# EAGLE library part FCOUNTER_AMP2X4 (library CounterModule)
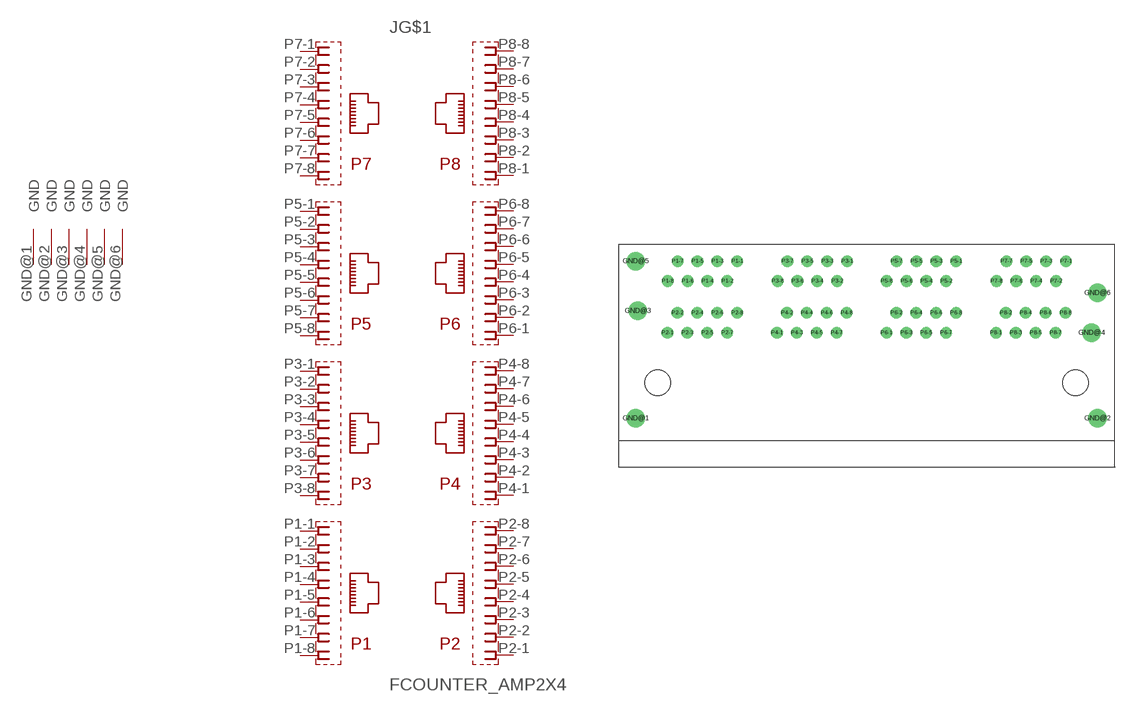
[diagram p8: symbol with the pads of FCOUNTER_AMP2X4; footprint FCOUNTER_AMP2X4]

Designator prefix J; gates G$1=FCOUNTER_AMP2X4 G$2=FCOUNTER_SCHIRM

## FCOUNTER_AMP2X4  [FCOUNTER_AMP2X4]
GND@1  G$2:GND  pwr
GND@2  G$2:GND  pwr
GND@3  G$2:GND  pwr
GND@4  G$2:GND  pwr
GND@5  G$2:GND  pwr
GND@6  G$2:GND  pwr
P1-1  G$1:P1-1  pas
P1-2  G$1:P1-2  pas
P1-3  G$1:P1-3  pas
P1-4  G$1:P1-4  pas
P1-5  G$1:P1-5  pas
P1-6  G$1:P1-6  pas
P1-7  G$1:P1-7  pas
P1-8  G$1:P1-8  pas
P2-1  G$1:P2-1  pas
P2-2  G$1:P2-2  pas
P2-3  G$1:P2-3  pas
P2-4  G$1:P2-4  pas
P2-5  G$1:P2-5  pas
P2-6  G$1:P2-6  pas
P2-7  G$1:P2-7  pas
P2-8  G$1:P2-8  pas
P3-1  G$1:P3-1  pas
P3-2  G$1:P3-2  pas
P3-3  G$1:P3-3  pas
P3-4  G$1:P3-4  pas
P3-5  G$1:P3-5  pas
P3-6  G$1:P3-6  pas
P3-7  G$1:P3-7  pas
P3-8  G$1:P3-8  pas
P4-1  G$1:P4-1  pas
P4-2  G$1:P4-2  pas
P4-3  G$1:P4-3  pas
P4-4  G$1:P4-4  pas
P4-5  G$1:P4-5  pas
P4-6  G$1:P4-6  pas
P4-7  G$1:P4-7  pas
P4-8  G$1:P4-8  pas
P5-1  G$1:P5-1  pas
P5-2  G$1:P5-2  pas
P5-3  G$1:P5-3  pas
P5-4  G$1:P5-4  pas
P5-5  G$1:P5-5  pas
P5-6  G$1:P5-6  pas
P5-7  G$1:P5-7  pas
P5-8  G$1:P5-8  pas
P6-1  G$1:P6-1  pas
P6-2  G$1:P6-2  pas
P6-3  G$1:P6-3  pas
P6-4  G$1:P6-4  pas
P6-5  G$1:P6-5  pas
P6-6  G$1:P6-6  pas
P6-7  G$1:P6-7  pas
P6-8  G$1:P6-8  pas
P7-1  G$1:P7-1  pas
P7-2  G$1:P7-2  pas
P7-3  G$1:P7-3  pas
P7-4  G$1:P7-4  pas
P7-5  G$1:P7-5  pas
P7-6  G$1:P7-6  pas
P7-7  G$1:P7-7  pas
P7-8  G$1:P7-8  pas
P8-1  G$1:P8-1  pas
P8-2  G$1:P8-2  pas
P8-3  G$1:P8-3  pas
P8-4  G$1:P8-4  pas
P8-5  G$1:P8-5  pas
P8-6  G$1:P8-6  pas
P8-7  G$1:P8-7  pas
P8-8  G$1:P8-8  pas

## Footprint FCOUNTER_AMP2X4 (pad centres in mm)
drill 1.57: GND@1 -2.79,-4.57; GND@2 56.13,-4.57; GND@3 -2.52,9.14; GND@4 55.37,6.35; GND@5 -2.79,15.49; GND@6 56.13,11.43
drill 0.97: P1-1 10.16,15.49; P1-2 8.89,12.95; P1-3 7.62,15.49; P1-4 6.35,12.95; P1-5 5.08,15.49; P1-6 3.81,12.95; P1-7 2.54,15.49; P1-8 1.27,12.95; P2-1 1.25,6.35; P2-2 2.52,8.89; P2-3 3.79,6.35; P2-4 5.06,8.89; P2-5 6.33,6.35; P2-6 7.6,8.89; P2-7 8.87,6.35; P2-8 10.14,8.89; P3-1 24.18,15.49; P3-2 22.91,12.95; P3-3 21.64,15.49; P3-4 20.37,12.95; P3-5 19.1,15.49; P3-6 17.83,12.95; P3-7 16.56,15.49; P3-8 15.29,12.95; P4-1 15.22,6.35; P4-2 16.49,8.89; P4-3 17.76,6.35; P4-4 19.03,8.89; P4-5 20.3,6.35; P4-6 21.57,8.89; P4-7 22.84,6.35; P4-8 24.11,8.89; P5-1 38.1,15.49; P5-2 36.83,12.95; P5-3 35.56,15.49; P5-4 34.29,12.95; P5-5 33.02,15.49; P5-6 31.75,12.95; P5-7 30.48,15.49; P5-8 29.21,12.95; P6-1 29.19,6.35; P6-2 30.46,8.89; P6-3 31.73,6.35; P6-4 33,8.89; P6-5 34.27,6.35; P6-6 35.54,8.89; P6-7 36.81,6.35; P6-8 38.08,8.89; P7-1 52.12,15.49; P7-2 50.85,12.95; P7-3 49.58,15.49; P7-4 48.31,12.95; P7-5 47.04,15.49; P7-6 45.77,12.95; P7-7 44.5,15.49; P7-8 43.23,12.95; P8-1 43.16,6.35; P8-2 44.43,8.89; P8-3 45.7,6.35; P8-4 46.97,8.89; P8-5 48.24,6.35; P8-6 49.51,8.89; P8-7 50.78,6.35; P8-8 52.05,8.89
hole 3.251 at 0,0
hole 3.251 at 53.34,0